# EAGLE library part REF102M (library burr-brown)
Precision Voltage Reference
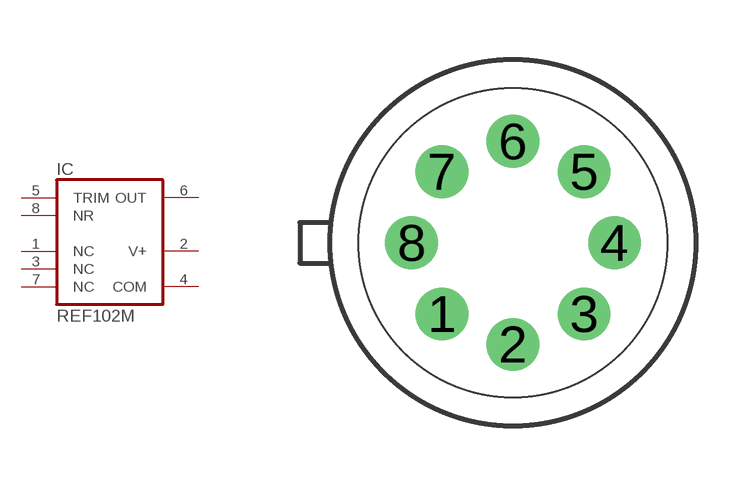
[diagram p179: symbol with the pads of TO-99; footprint TO-99]

Designator prefix IC

## REF102M  [TO-99]
1  NC  nc
2  V+  pwr
3  NC  nc
4  COM  pwr
5  TRIM  pas
6  OUT  in
7  NC  nc
8  NR  pas

## Footprint TO-99 (pad centres in mm)
drill 0.813: 1 -1.778,-1.778; 2 0,-2.54; 3 1.778,-1.778; 4 2.54,0; 5 1.778,1.778; 6 0,2.54; 7 -1.778,1.778; 8 -2.54,0